# Altium schematic symbol library ZX_UNO_Aplus2.SchLib: 24 symbols
Pins are listed as number, name and electrical type; pins without a type are passive.

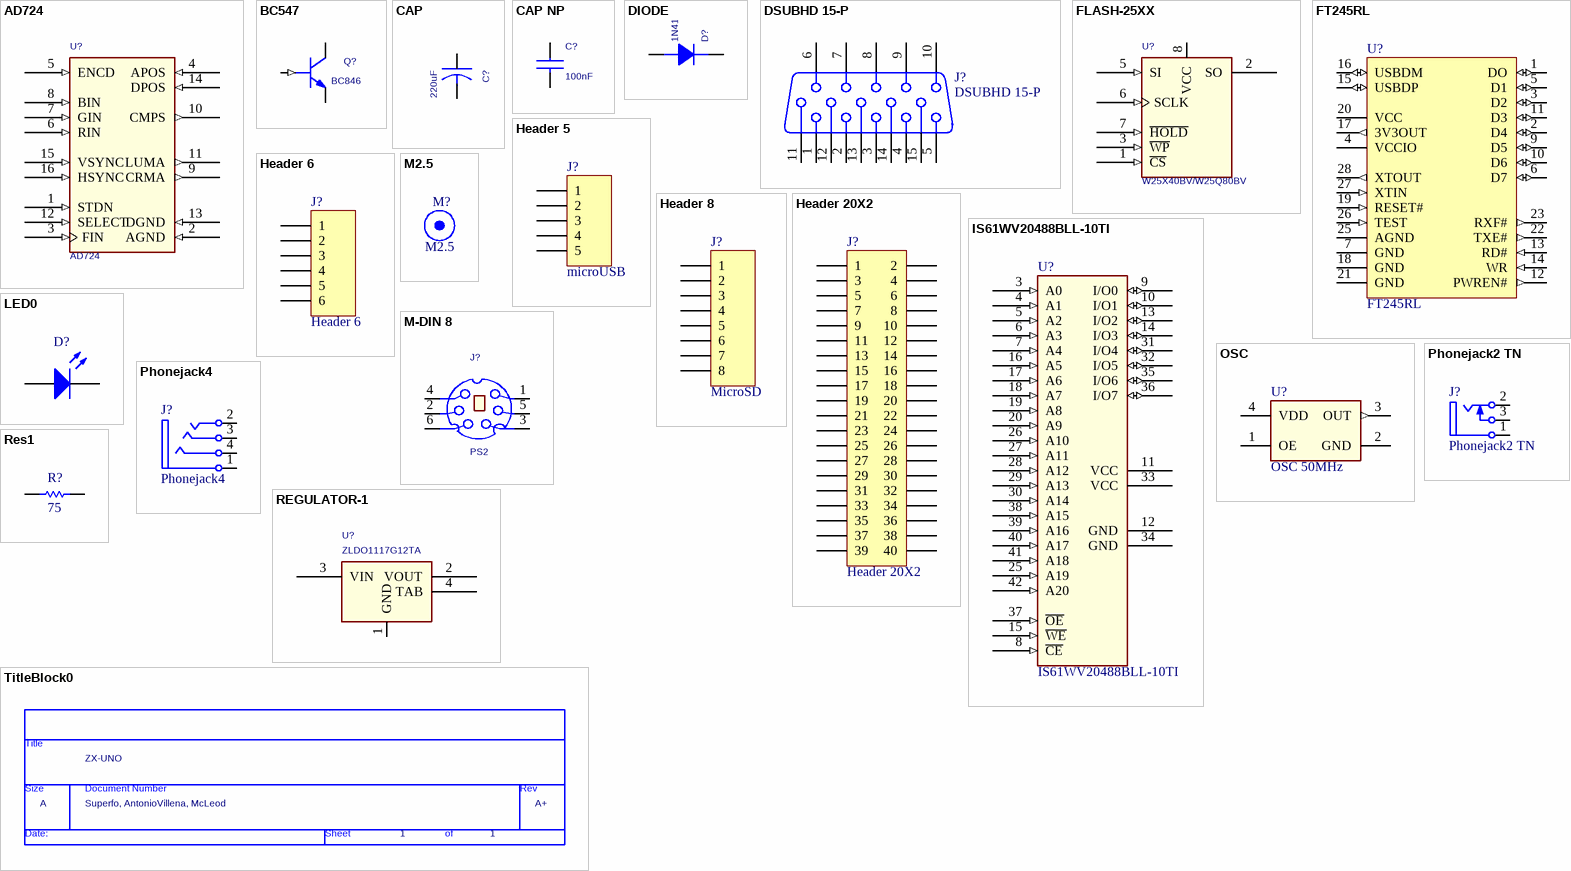
[diagram p0: symbols AD724 to TitleBlock0]

## AD724
designator U?
COMPHEIGHT: 0.000; MEMORY: NO; COMPGROUP: 0; COMPROT: 90; COMPLOC: [1000.000,210.000]; COMPSIDE: TOP; DECOUPLER: NO; COMPKEY: NO; COMPLOCKED: NO; COMPFIXED: NO
footprint SOJ.050/16/WB.400/L.400
pins: 1 STDN (in), 2 AGND (in), 3 FIN (in), 4 APOS (in), 5 ENCD (in), 6 RIN (in), 7 GIN (in), 8 BIN (in), 9 CRMA (out), 10 CMPS (out), 11 LUMA (out), 12 SELECT (in), 13 DGND (in), 14 DPOS (in), 15 VSYNC (in), 16 HSYNC (in)

## BC547
designator Q?, comment BC846
COMPHEIGHT: 0.000; MEMORY: NO; COMPGROUP: 0; COMPLOC: [2215.000,625.000]; COMPSIDE: BOT; FPLIST: SM/SOT23_123; DECOUPLER: NO; COMPKEY: NO; COMPLOCKED: NO; COMPFIXED: NO; COMPROT: 0
footprint SM/SOT23_231
pins: 1 COLLECTOR, 2 BASE (in), 3 EMITTER

## CAP
designator C?, comment 220uF
COMPSIDE: TOP; COMPLOC: [2160.000,2000.000]; COMPROT: 270; COMPGROUP: 0; COMPFIXED: NO; COMPHEIGHT: 0.000; COMPLOCKED: NO; COMPKEY: NO; DECOUPLER: NO; MEMORY: NO
footprint CYL/D.250/LS.150/.031
pins: 1, 2

## CAP NP
designator C?, comment 100nF
COMPHEIGHT: 0.000; MEMORY: NO; COMPGROUP: 0; COMPLOC: [1025.000,1280.000]; COMPSIDE: BOT; FPLIST: SM/C_0603_VIA,SM/C_0805,SM/C_0603; DECOUPLER: NO; COMPKEY: NO; COMPLOCKED: NO; COMPFIXED: NO; COMPROT: 0
footprint SM/C_0603
pins: 1, 2

## DIODE
designator D?, comment 1N4148
COMPHEIGHT: 0.000; MEMORY: NO; COMPGROUP: 0; COMPROT: 180; COMPLOC: [2505.000,640.000]; COMPSIDE: BOT; DECOUPLER: NO; COMPKEY: NO; COMPLOCKED: NO; COMPFIXED: NO
footprint SM/D_0805_21
pins: 1 A, 2 K

## DSUBHD 15-P
designator J?
Receptacle Assembly, 15-Pin, Sim Line Connector; PackageDocument: B; Positions: 15; Gender: Receptacle Header; Published: 15-Jun-2001; LatestRevisionDate: 17-Jul-2002; LatestRevisionNote: Re-released for DXP Platform.; DatasheetDocument: 24-Nov-1999; PackageReference: 788574; Publisher: Altium Limited; Orientation: Right Angle
footprint DSUB/RP/SM/15
signal-integrity model Connector
pins: 1, 2, 3, 4, 5, 6, 7, 8, 9, 10, 11, 12, 13, 14, 15

## FLASH-25XX
designator U?, comment W25X40BV/W25Q80BV
COMPHEIGHT: 0.000; MEMORY: NO; COMPGROUP: 0; COMPROT: 180; COMPLOC: [950.000,1185.000]; COMPSIDE: BOT; DECOUPLER: NO; COMPKEY: NO; COMPLOCKED: NO; COMPFIXED: NO
footprint SOJ.050/8/WB.300/L.200
pins: 1 ~{CS} (in), 2 SO (hiz), 3 ~{WP} (in), 4 GND (power) hidden to GND, 5 SI (in), 6 SCLK (in), 7 ~{HOLD} (in), 8 VCC (power)

## FT245RL
designator U?
USB/Parallel FIFO Bi-Directional Data Transfer Chip, LQFP-32, Pb-Free; Published: 6-Jun-2005; LatestRevisionDate: 13-Apr-2006; LatestRevisionNote: IPC-7351 Footprint Added.; DatasheetVersion: ver 1.6, Feb-2005; PackageVersion: Mar-2004; PackageReference: LQFP-32; Publisher: Altium Limited; PackageDescription: 32-Pin Thin Quad Flat Pack 0.8 mm Pitch; ComponentLink1Description: Manufacturer Link; ComponentLink1URL: http://www.ftdichip.com/Products/FT245BM.htm; ComponentLink2Description: Datasheet; ComponentLink2URL: http://www.ftdichip.com/Documents/DataSheets/ds245bl16.pdf
footprint SOP65P780-28N (SOP, 28-Leads, Body 10.2x5.3mm, Pitch 0.65mm, IPC Medium Density)
footprint LQFP-32_L (Thin QFP, 32-Leads, Body 7x7mm, Pitch 0.8mm, IPC High Density)
footprint LQFP-32_M (Thin QFP, 32-Leads, Body 7x7mm, Pitch 0.8mm, IPC Low Density)
pins: 1 DO (io) "FIFO Data Bus Bit 0", 2 D4 (io) "FIFO Data Bus Bit 4", 3 D2 (io) "FIFO Data Bus Bit 2", 4 VCCIO (power) "+3.0 volt to +5.25 volt VCC to the FIFO interface pins 10..12, 14..16 and 18..25.", 5 D1 (io) "FIFO Data Bus Bit 1", 6 D7 (io) "FIFO Data Bus Bit 7", 7 GND (power) "Device - Ground Supply Pins", 9 D5 (io) "FIFO Data Bus Bit 5", 10 D6 (io) "FIFO Data Bus Bit 6", 11 D3 (io) "FIFO Data Bus Bit 3", 12 PWREN# (out) "Goes Low after the device is configured via USB, then high during USB suspend. Can be used to control power to external logic using a P-Channel MOSFET switch. Enable the Interface Pull-Down Option in EEPROM when using the PWREN# pin in this way.", 13 RD# (in) "Enables Current FIFO Data Byte on D0..D7 when low. Fetches the next FIFO Data Byte (if available) from the Receive FIFO Buffer when RD# goes from low to high.", 14 WR (in) "Writes the Data Byte on the D0..D7 into the Transmit FIFO Buffer when WR goes from high to low.", 15 USBDP (io) "USB Data Signal Plus (Requires 1.5K pull-up to 3V3OUT or RSTOUT#)", 16 USBDM (io) "USB Data Signal Minus", 17 3V3OUT (out) "3.3 volt Output from the integrated L.D.O. regulator This pin should be decoupled to GND using a 33nF ceramic capacitor in close proximity to the device pin.", 18 GND (power) "Device - Ground Supply Pins", 19 RESET# (in) "Can be used by an external device to reset the FT245BM. If not required, tie to VCC.", 20 VCC (power) "+4.35 volt to +5.25 volt VCC to the device core, LDO and none-FIFO interface pins.", 21 GND (power), 22 TXE# (out) "When high, do not write data into the FIFO. When low, data can be written into the FIFO by strobing WR high then low.", 23 RXF# (out) "When high, do not read data from the FIFO. When low, there is data available in the FIFO which can be read by strobing RD# low then high again.", 25 AGND (power) "Device - Analog Ground Supply for the internal x8 clock multiplier", 26 TEST (in) "Puts device in I.C. test mode – must be tied to GND for normal operation.", 27 XTIN (in) "Input to 6MHz Crystal Oscillator. Can also be driven by an external 6MHz clock. Note : Switching threshold of this pin is VCC/2, so if driving from an external source, the source must be driving at 5V CMOS level or a.c. coupled to centre around VCC/2.", 28 XTOUT (out) "Output from 6MHz Crystal Oscillator Cell. XTOUT stops oscillating during USB suspend, so take care if using this signal to clock external logic."

## Header 5
designator J?, comment microUSB
Header, 5-Pin; LatestRevisionDate: 17-Jul-2002; LatestRevisionNote: Re-released for DXP Platform.; Publisher: Altium Limited
footprint MICRO USB
signal-integrity model Connector
pins: 1, 2, 3, 4, 5

## Header 6
designator J?
Header, 6-Pin; LatestRevisionDate: 17-Jul-2002; LatestRevisionNote: Re-released for DXP Platform.; Publisher: Altium Limited
footprint HDR1X6 (Connector; Header; 6 Position)
signal-integrity model Connector
pins: 1, 2, 3, 4, 5, 6

## Header 8
designator J?, comment MicroSD
Header, 8-Pin; LatestRevisionDate: 17-Jul-2002; LatestRevisionNote: Re-released for DXP Platform.; Publisher: Altium Limited
footprint SD HR1941CT-ND
signal-integrity model Connector
pins: 1, 2, 3, 4, 5, 6, 7, 8

## Header 20X2
designator J?
Header, 20-Pin, Dual row; LatestRevisionDate: 17-Jul-2002; LatestRevisionNote: Re-released for DXP Platform.; Publisher: Altium Limited
footprint HDR2X20 (Connector; Header; 20x2 Position)
signal-integrity model Connector
pins: 1, 2, 3, 4, 5, 6, 7, 8, 9, 10, 11, 12, 13, 14, 15, 16, 17, 18, 19, 20, 21, 22, 23, 24, 25, 26, 27, 28, 29, 30, 31, 32, 33, 34, 35, 36, 37, 38, 39, 40

## IS61WV20488BLL-10TI
designator U?
footprint SOP80P1176-44M (SOP, 44-Leads, Body 18.4x10.16mm, Pitch 0.8mm, IPC Low Density)
pins: 3 A0 (in), 4 A1 (in), 5 A2 (in), 6 A3 (in), 7 A4 (in), 8 ~{CE} (in), 9 I/O0 (io), 10 I/O1 (io), 11 VCC (power), 12 GND (power), 13 I/O2 (io), 14 I/O3 (io), 15 ~{WE} (in), 16 A5 (in), 17 A6 (in), 18 A7 (in), 19 A8 (in), 20 A9 (in), 25 A19 (in), 26 A10 (in), 27 A11 (in), 28 A12 (in), 29 A13 (in), 30 A14 (in), 31 I/O4 (io), 32 I/O5 (io), 33 VCC (power), 34 GND (power), 35 I/O6 (io), 36 I/O7 (io), 37 ~{OE} (in), 38 A15 (in), 39 A16 (in), 40 A17 (in), 41 A18 (in), 42 A20 (in)

## LED0
designator D?  (value not drawn)
Typical INFRARED GaAs LED; Published: 8-Jun-2000; LatestRevisionDate: 08-Jul-2005; LatestRevisionNote: Mech Layer 1 removed.; PackageReference: LED-0; Publisher: Altium Limited; PackageDescription: LED; 2 Leads
footprint SM/LED_0603_21
simulation model LED0 (Diode)
pins: 1 A, 2 K

## M2.5
designator M?
footprint M2.5

## M-DIN 8
designator J?, comment PS2
COMPHEIGHT: 512.000; MEMORY: NO; COMPFIXED: YES; COMPGROUP: 0; COMPROT: 270; COMPLOC: [3385.533,373.983]; COMPSIDE: TOP; DECOUPLER: NO; COMPKEY: NO; COMPLOCKED: NO
footprint DINC/MIN_TM/6
pins: 1, 2, 3, 4, 5, 6, M1 GND (power) hidden to GND, M2 GND (power) hidden to GND, M3 GND (power) hidden to GND

## OSC
designator U?, comment OSC 50MHz
footprint SM/OSC
pins: 1 OE, 2 GND (power), 3 OUT (out), 4 VDD (power)

## Phonejack2 TN
designator J?
Jack Socket, 3.5mm, Thru-Hole, Vertical, 2-Conductor with Tip closed; PackageDocument: 2003; PCB_Layout: Complies with manufacturer's recommendation.; DrillAndSlotSize: Corresponds to nominal value.; LatestRevisionDate: 15-Jul-2004; LatestRevisionNote: Component Replaced & renamed from "Phonejack".; DatasheetDocument: 2003; PackageReference: S1VS_SNB; Publisher: Altium Limited; ComponentLink1Description: Manufacturer Link; ComponentLink1URL: http://www.cliffuk.co.uk/
footprint AUDIO  JACK MJ-2523-SMT
signal-integrity model JACK Socket
pins: 1 S (power) "Sleeve (Ground)", 2 T "Tip", 3 TN "Tip Normal (Break Contact)"

## Phonejack4
designator J?
Jack Socket, 3.5mm, Thru-Hole, Right Angle, 4-Conductor; PackageDocument: 2003; PCB_Layout: Complies with manufacturer's recommendation.; DrillAndSlotSize: Corresponds to nominal value.; Published: 15-Jul-2004; DatasheetDocument: 2003; PackageReference: S1VS_SBS; Publisher: Altium Limited; ComponentLink1Description: Manufacturer Link; ComponentLink1URL: http://www.cliffuk.co.uk/
footprint AUDIO JACK PJ-322
signal-integrity model JACK Socket
pins: 1 S "Sleeve (Ground)", 2 T "Tip/Left Channel/(+)", 3 RN "Ring Normal (Break Contact)", 4 R "Ring/Right Channel/(-)"

## REGULATOR-1
designator U?, comment ZLDO1117G12TA
COMPHEIGHT: 0.000; MEMORY: NO; COMPGROUP: 0; COMPLOC: [1665.000,1750.000]; COMPSIDE: BOT; DECOUPLER: NO; COMPKEY: NO; COMPLOCKED: NO; COMPFIXED: NO; COMPROT: 0
footprint SM/SOT223
footprint SM/SOT223
pins: 1 GND (power), 2 VOUT (power), 3 VIN (power), 4 TAB

## Res1
designator R?  value 75  (hidden comment: Res1)
Resistor; Published: 8-Jun-2000; LatestRevisionDate: 17-Jul-2002; LatestRevisionNote: Re-released for DXP Platform.; PackageReference: AXIAL-0.3; Publisher: Altium Limited
footprint SM/R_0805
simulation model RESISTOR (Resistor)
signal-integrity model Res
pins: 1, 2

## TitleBlock0
designator *?  Page Count: 1  Page Size: A  Title: ZX-UNO  RevCode: A+  Doc: Superfo, AntonioVillena, McLeod  (hidden comment: TitleBlock0)  (graphical)
Page Create Date: March  8, 1995; Page Number: 1
text: Title; Size; Document Number; Rev; Date:; Sheet; of

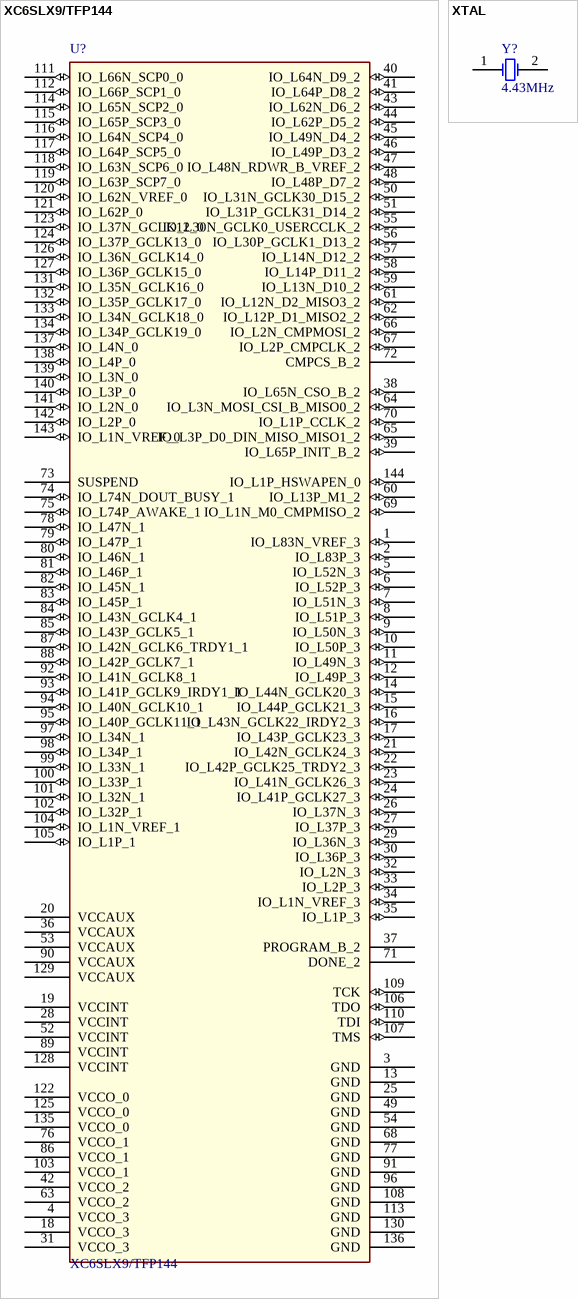
[diagram p1: symbols XC6SLX9/TFP144 to XTAL]

## XC6SLX9/TFP144
designator U?
footprint QUAD.50M/144/WG22.60
pins: 1 IO_L83N_VREF_3 (io), 2 IO_L83P_3 (io), 3 GND, 4 VCCO_3, 5 IO_L52N_3 (io), 6 IO_L52P_3 (io), 7 IO_L51N_3 (io), 8 IO_L51P_3 (io), 9 IO_L50N_3 (io), 10 IO_L50P_3 (io), 11 IO_L49N_3 (io), 12 IO_L49P_3 (io), 13 GND, 14 IO_L44N_GCLK20_3 (io), 15 IO_L44P_GCLK21_3 (io), 16 IO_L43N_GCLK22_IRDY2_3 (io), 17 IO_L43P_GCLK23_3 (io), 18 VCCO_3, 19 VCCINT, 20 VCCAUX, 21 IO_L42N_GCLK24_3 (io), 22 IO_L42P_GCLK25_TRDY2_3 (io), 23 IO_L41N_GCLK26_3 (io), 24 IO_L41P_GCLK27_3 (io), 25 GND, 26 IO_L37N_3 (io), 27 IO_L37P_3 (io), 28 VCCINT, 29 IO_L36N_3 (io), 30 IO_L36P_3 (io), 31 VCCO_3, 32 IO_L2N_3 (io), 33 IO_L2P_3 (io), 34 IO_L1N_VREF_3 (io), 35 IO_L1P_3 (io), 36 VCCAUX, 37 PROGRAM_B_2, 38 IO_L65N_CSO_B_2 (io), 39 IO_L65P_INIT_B_2 (io), 40 IO_L64N_D9_2 (io), 41 IO_L64P_D8_2 (io), 42 VCCO_2, 43 IO_L62N_D6_2 (io), 44 IO_L62P_D5_2 (io), 45 IO_L49N_D4_2 (io), 46 IO_L49P_D3_2 (io), 47 IO_L48N_RDWR_B_VREF_2 (io), 48 IO_L48P_D7_2 (io), 49 GND, 50 IO_L31N_GCLK30_D15_2 (io), 51 IO_L31P_GCLK31_D14_2 (io), 52 VCCINT, 53 VCCAUX, 54 GND, 55 IO_L30N_GCLK0_USERCCLK_2 (io), 56 IO_L30P_GCLK1_D13_2 (io), 57 IO_L14N_D12_2 (io), 58 IO_L14P_D11_2 (io), 59 IO_L13N_D10_2 (io), 60 IO_L13P_M1_2 (io), 61 IO_L12N_D2_MISO3_2 (io), 62 IO_L12P_D1_MISO2_2 (io), 63 VCCO_2, 64 IO_L3N_MOSI_CSI_B_MISO0_2 (io), 65 IO_L3P_D0_DIN_MISO_MISO1_2 (io), 66 IO_L2N_CMPMOSI_2 (io), 67 IO_L2P_CMPCLK_2 (io), 68 GND, 69 IO_L1N_M0_CMPMISO_2 (io), 70 IO_L1P_CCLK_2 (io), 71 DONE_2, 72 CMPCS_B_2, 73 SUSPEND, 74 IO_L74N_DOUT_BUSY_1 (io), 75 IO_L74P_AWAKE_1 (io), 76 VCCO_1, 77 GND (power), 78 IO_L47N_1 (io), 79 IO_L47P_1 (io), 80 IO_L46N_1 (io), 81 IO_L46P_1 (io), 82 IO_L45N_1 (io), 83 IO_L45P_1 (io), 84 IO_L43N_GCLK4_1 (io), 85 IO_L43P_GCLK5_1 (io), 86 VCCO_1, 87 IO_L42N_GCLK6_TRDY1_1 (io), 88 IO_L42P_GCLK7_1 (io), 89 VCCINT, 90 VCCAUX, 91 GND (power), 92 IO_L41N_GCLK8_1 (io), 93 IO_L41P_GCLK9_IRDY1_1 (io), 94 IO_L40N_GCLK10_1 (io), 95 IO_L40P_GCLK11_1 (io), 96 GND (power), 97 IO_L34N_1 (io), 98 IO_L34P_1 (io), 99 IO_L33N_1 (io), 100 IO_L33P_1 (io), 101 IO_L32N_1 (io), 102 IO_L32P_1 (io), 103 VCCO_1, 104 IO_L1N_VREF_1 (io), 105 IO_L1P_1 (io), 106 TDO (io), 107 TMS (io), 108 GND (power), 109 TCK (io), 110 TDI (io), 111 IO_L66N_SCP0_0 (io), 112 IO_L66P_SCP1_0 (io), 113 GND (power), 114 IO_L65N_SCP2_0 (io), 115 IO_L65P_SCP3_0 (io), 116 IO_L64N_SCP4_0 (io), 117 IO_L64P_SCP5_0 (io), 118 IO_L63N_SCP6_0 (io), 119 IO_L63P_SCP7_0 (io), 120 IO_L62N_VREF_0 (io), 121 IO_L62P_0 (io), 122 VCCO_0, 123 IO_L37N_GCLK12_0 (io), 124 IO_L37P_GCLK13_0 (io), 125 VCCO_0, 126 IO_L36N_GCLK14_0 (io), 127 IO_L36P_GCLK15_0 (io), 128 VCCINT, 129 VCCAUX, 130 GND, 131 IO_L35N_GCLK16_0 (io), 132 IO_L35P_GCLK17_0 (io), 133 IO_L34N_GCLK18_0 (io), 134 IO_L34P_GCLK19_0 (io), 135 VCCO_0, 136 GND, 137 IO_L4N_0 (io), 138 IO_L4P_0 (io), 139 IO_L3N_0 (io), 140 IO_L3P_0 (io), 141 IO_L2N_0 (io), 142 IO_L2P_0 (io), 143 IO_L1N_VREF_0 (io), 144 IO_L1P_HSWAPEN_0 (io)

## XTAL
designator Y?, comment 4.43MHz
Crystal Oscillator; Published: 8-Jun-2000; LatestRevisionDate: 17-Jul-2002; LatestRevisionNote: Re-released for DXP Platform.; PackageReference: R38; Publisher: Altium Limited
footprint XTAL
simulation model XTAL (Spice Subcircuit)
pins: 1 OSC1, 2 OSC2